# EAGLE library part 555 (library be_timer)
edited: Mario Blunk / Blunk electronic
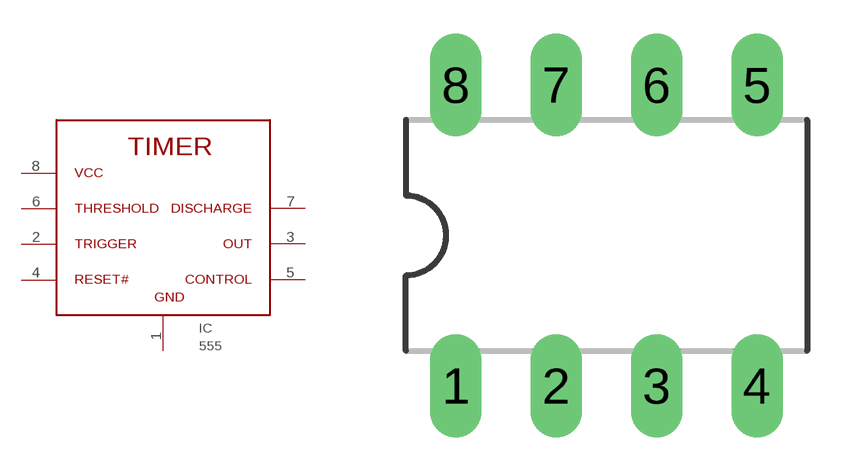
[diagram p0: symbol with the pads of T_NDIP8; footprint T_NDIP8]

Designator prefix IC

## 555P (BOM: YES; COMMISSIONED: 2015-10-15; PART_CODE_BEL: IC_PAC_T_NDIP8_VAL_x555x)  [T_NDIP8]
1  GND  pwr
2  TRG  pas
3  OUT  out
4  RST#  in
5  OC  pas
6  TRSHLD  pas
7  DSCHRG  out
8  VCC  pwr

## Footprint T_NDIP8 (pad centres in mm)
edited: Mario Blunk / Blunk electronic date: 2015-10-15
drill 0.8 long: 1 -3.82,-3.81; 2 -1.28,-3.81; 3 1.26,-3.81; 4 3.8,-3.81; 5 3.8,3.81; 6 1.26,3.81; 7 -1.28,3.81; 8 -3.82,3.81